# Altium footprint library FootPrnt_fact.PcbLib: 87 footprints (part 5 of 6)
Each footprint in its own frame and in the unit in brackets; x right, y up, seen from the top. Pads: shape width x height; smd on the part's side, far side on the other; paste and mask are expansions set on the pad; w line width, h text height; cw(c..) or ccw(c..) is an arc to the next point about the centre after c.
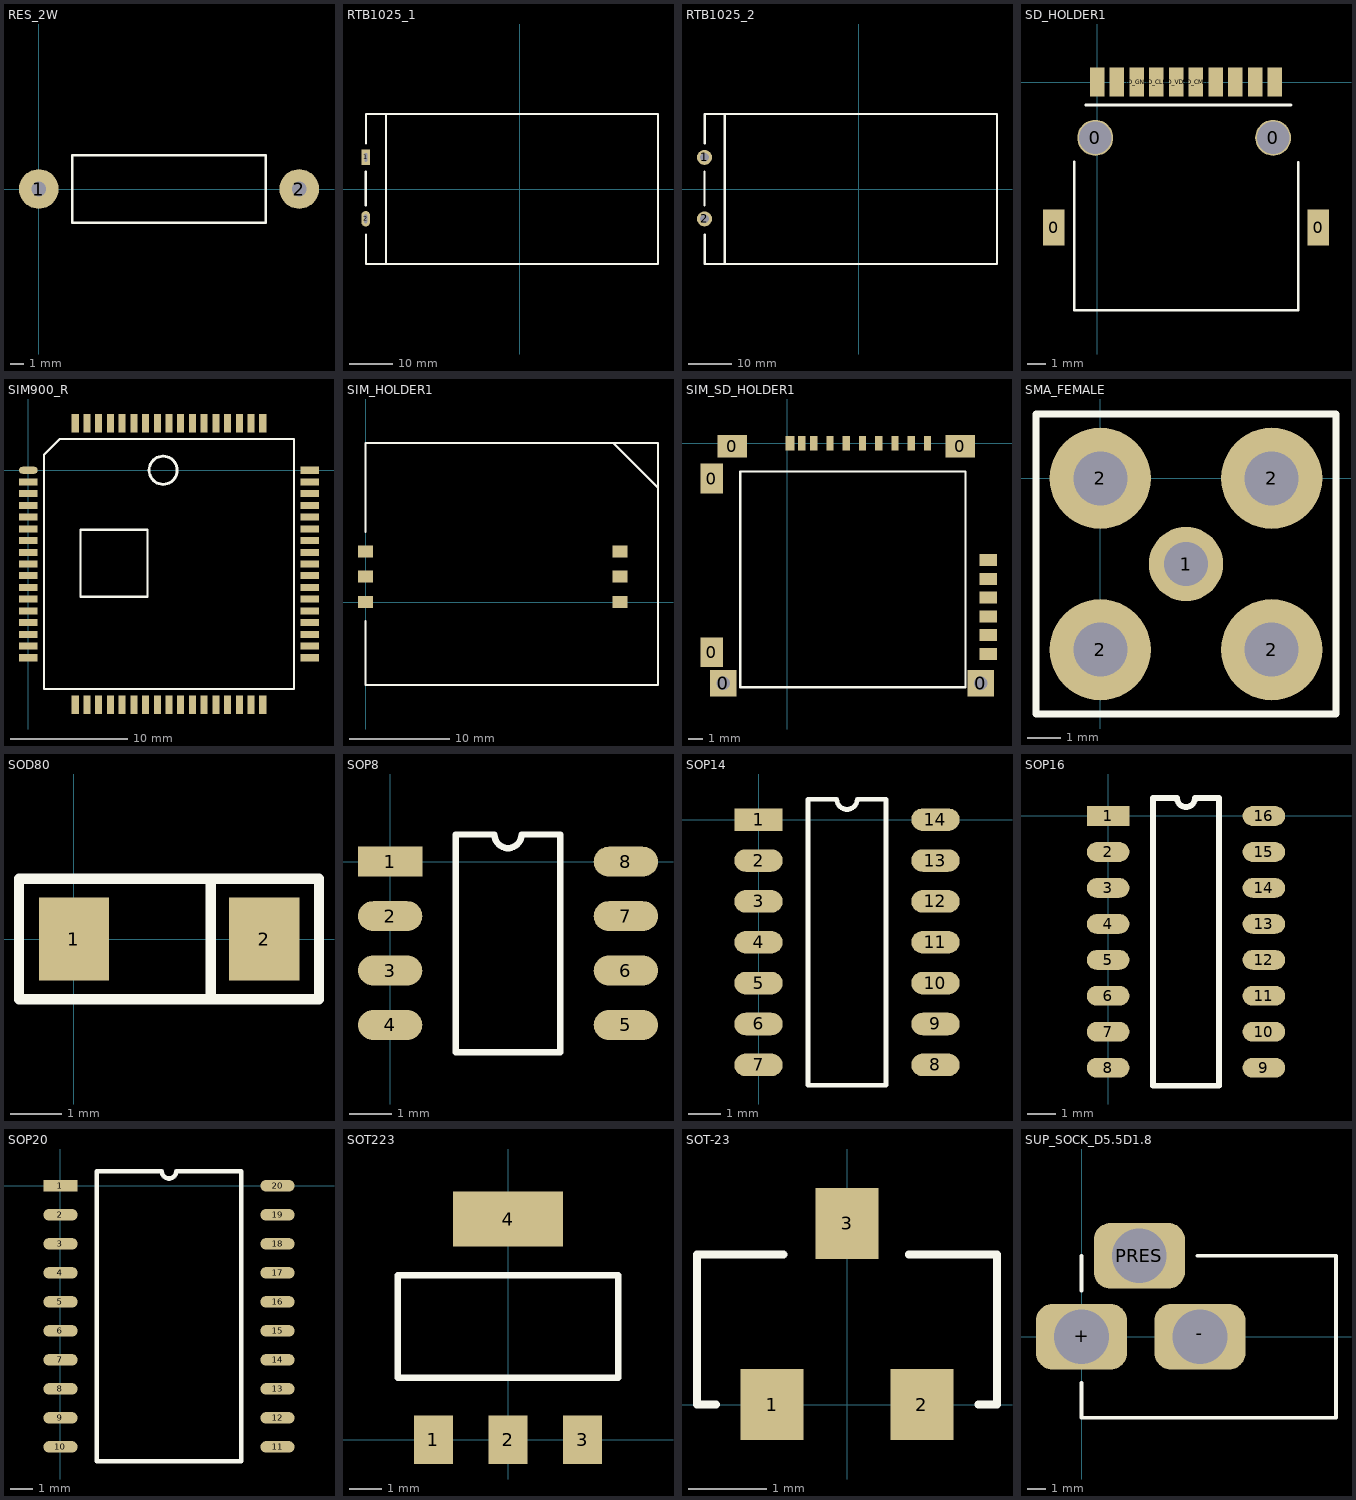
[diagram p4: the footprints below, top view; thin cyan lines are the x and y axes]

## RES_2W [mm]
pads (2):
  round 3 hole 1.1: 1(0,0) 2(19.685,0)
Top Overlay:
  lines w0.2: 2.54,-2.54 17.145,-2.54 17.145,2.54 2.54,2.54 2.54,-2.54

## RTB1025_1 [mm]
pads (2):
  rect 2x3.6 hole 0.6 slot 2 at 90 deg: 1(-35.765,7.4)
  oval 2x3.6 hole 0.6 slot 2 at 90 deg: 2(-35.8,-6.9)
Top Overlay:
  lines w0.5: -35.8,-3.8 -35.8,4.1 ; -35.765,-10.535 -35.765,-17.435 -31.1,-17.435 -31.1,17.5 -35.765,17.5 -35.765,10.635 ; -31.765,-17.435 32.2,-17.435 32.2,17.5 -31.765,17.5

## RTB1025_2 [mm]
pads (2):
  round 3.5 hole 2: 1(-35.8,7.4) 2(-35.8,-6.9)
Top Overlay:
  lines w0.5: -35.8,-3.8 -35.8,4.1 ; -35.765,-10.535 -35.765,-17.435 -31.1,-17.435 -31.1,17.5 -35.765,17.5 -35.765,10.635 ; -31.765,-17.435 32.2,-17.435 32.2,17.5 -31.765,17.5

## SD_HOLDER1 [mm]
pads (14):
  rect 1.2x2 smd: 0(-2.4,-8.1) 0(12.3,-8.1)
  round 2 hole 1.8: 0(-0.1,-3.1) 0(9.8,-3.1)
  rect 0.8x1.6 smd: SD_CLK(3.3,0) SD_CMD(5.5,0) SD_DAT0(1.1,0) SD_DAT1(0,0) SD_DAT2(7.7,0) SD_DAT3(6.6,0) SD_GND(2.2,0) SD_PRES1(8.8,0) SD_PRES2(9.9,0) SD_VDD(4.4,0)
Top Overlay:
  lines w0.15: -1.27,-4.445 -1.27,-12.7 11.202,-12.7 11.202,-4.469 ; -0.635,-1.27 10.795,-1.27

## SIM900_R [mm] "SIM900 or SIM900R"
pads (68):
  oval 1.6x0.6 smd: 1(0,0)
  rect 1.6x0.6 smd: 2(0,-1) 3(0,-2) 4(0,-3) 5(0,-4) 6(0,-5) 7(0,-6) 8(0,-7) 9(0,-8) 10(0,-9) 11(0,-10) 12(0,-11) 13(0,-12) 14(0,-13) 15(0,-14) 16(0,-15) 17(0,-16) 35(24,-16) 36(24,-15) 37(24,-14) 38(24,-13) 39(24,-12) 40(24,-11) 41(24,-10) 42(24,-9) 43(24,-8) 44(24,-7) 45(24,-6) 46(24,-5) 47(24,-4) 48(24,-3) 49(24,-2) 50(24,-1) 51(24,0)
  rect 0.6x1.6 smd: 18(4,-20) 19(5,-20) 20(6,-20) 21(7,-20) 22(8,-20) 23(9,-20) 24(10,-20) 25(11,-20) 26(12,-20) 27(13,-20) 28(14,-20) 29(15,-20) 30(16,-20) 31(17,-20) 32(18,-20) 33(19,-20) 34(20,-20) 52(20,4) 53(19,4) 54(18,4) 55(17,4) 56(16,4) 57(15,4) 58(14,4) 59(13,4) 60(12,4) 61(11,4) 62(10,4) 63(9,4) 64(8,4) 65(7,4) 66(6,4) 67(5,4) 68(4,4)
Top Overlay:
  circle w0.254: c11.5,0 r1.2
  lines w0.2: 1.335,-18.665 1.335,1.33 2.67,2.665 22.665,2.665 22.665,-18.665 1.335,-18.665 ; 4.445,-10.795 10.16,-10.795 10.16,-5.08 4.445,-5.08 4.445,-10.795

## SIM_HOLDER1 [mm]
pads (6):
  rect 1.5x1.2 smd: SIM_CLK(0,5.08) SIM_DATA(25.4,5.08) SIM_GND(25.4,0) SIM_RES(0,2.54) SIM_VDD(0,0) SIM_VPP(25.4,2.54)
Top Overlay:
  lines w0.2: 0,-1.905 0,-8.255 29.21,-8.255 29.21,15.875 0,15.875 0,6.985 ; 24.765,15.875 29.21,11.43

## SIM_SD_HOLDER1 [mm]
pads (22):
  rect 1.5x2 smd: 0(-5.1,-14.141) 0(-5.1,-2.38)
  rect 1.8x1.8 hole 0.9: 0(-4.315,-16.23) 0(13.1,-16.23)
  rect 2x1.5 smd: 0(-3.7,-0.2) 0(11.7,-0.2)
  rect 0.5x1 smd: SD_CLK(6.2,0) SD_CMD(4,0) SD_DAT0(8.4,0) SD_DAT1(9.5,0) SD_DAT2(1.8,0) SD_DAT3(2.9,0) SD_GND(7.3,0) SD_PRES2(1,0) SD_VDD(5.1,0)
  rect 0.6x1 smd: SD_PRES1(0.2,0)
  rect 1.2x0.8 smd: SIM_CLK(13.6,-9.17) SIM_DATA(13.6,-7.9) SIM_GND(13.6,-12.98) SIM_RES(13.6,-11.71) SIM_VDD(13.6,-14.25) SIM_VPP(13.6,-10.44)
Top Overlay:
  lines w0.15: -3.175,-16.51 -3.175,-1.905 12.065,-1.905 12.065,-16.51 -3.175,-16.51

## SMA_FEMALE [mm]
pads (5):
  round 2.2 hole 1.3: 1(2.54,-2.54)
  round 3 hole 1.6: 2(0,-5.08) 2(0,0) 2(5.08,-5.08) 2(5.08,0)
Top Overlay:
  lines w0.2: -1.905,-6.985 0.635,-6.985 5.715,-6.985 6.985,-6.985 6.985,-4.445 6.985,0.635 6.985,1.905 5.715,1.905 1.27,1.905 -1.905,1.905 -1.905,1.27 -1.905,-3.81 -1.905,-6.985

## SOD80 [mm]
pads (2):
  rect 1.37x1.62 smd: 1(0,0) 2(3.71,0)
Top Overlay:
  lines w0.2: 2.668,-1.176 2.668,1.177 ; -1.07,-1.176 -1.07,1.177 4.78,1.177 4.78,-1.176 -1.07,-1.176

## SOP8 [mm]
pads (8):
  rect 1.5x0.7 smd: 1(0,0)
  oval 1.5x0.7 smd: 2(0,-1.27) 3(0,-2.54) 4(0,-3.81) 5(5.5,-3.81) 6(5.5,-2.54) 7(5.5,-1.27) 8(5.5,0)
Top Overlay:
  lines w0.15: 1.535,-4.445 3.965,-4.445 3.965,0.635 3.067,0.635 cw(c2.75,0.635) 2.432,0.635 1.535,0.635 1.535,-4.445

## SOP14 [mm]
pads (14):
  rect 1.5x0.7 smd: 1(0,0)
  oval 1.5x0.7 smd: 2(0,-1.27) 3(0,-2.54) 4(0,-3.81) 5(0,-5.08) 6(0,-6.35) 7(0,-7.62) 8(5.5,-7.62) 9(5.5,-6.35) 10(5.5,-5.08) 11(5.5,-3.81) 12(5.5,-2.54) 13(5.5,-1.27) 14(5.5,0)
Top Overlay:
  lines w0.15: 1.535,-8.255 3.965,-8.255 3.965,0.635 3.067,0.635 cw(c2.75,0.635) 2.432,0.635 1.535,0.635 1.535,-8.255

## SOP16 [mm]
pads (16):
  rect 1.5x0.7 smd: 1(0,0)
  oval 1.5x0.7 smd: 2(0,-1.27) 3(0,-2.54) 4(0,-3.81) 5(0,-5.08) 6(0,-6.35) 7(0,-7.62) 8(0,-8.89) 9(5.5,-8.89) 10(5.5,-7.62) 11(5.5,-6.35) 12(5.5,-5.08) 13(5.5,-3.81) 14(5.5,-2.54) 15(5.5,-1.27) 16(5.5,0)
Top Overlay:
  lines w0.2: 1.585,-9.525 1.585,0.635 2.432,0.635 ccw(c2.75,0.635) 3.067,0.635 3.915,0.635 3.915,-9.525 1.585,-9.525

## SOP20 [mm]
pads (20):
  rect 1.5x0.5 smd: 1(0,0)
  oval 1.5x0.5 smd: 2(0,-1.27) 3(0,-2.54) 4(0,-3.81) 5(0,-5.08) 6(0,-6.35) 7(0,-7.62) 8(0,-8.89) 9(0,-10.16) 10(0,-11.43) 11(9.5,-11.43) 12(9.5,-10.16) 13(9.5,-8.89) 14(9.5,-7.62) 15(9.5,-6.35) 16(9.5,-5.08) 17(9.5,-3.81) 18(9.5,-2.54) 19(9.5,-1.27) 20(9.5,0)
Top Overlay:
  lines w0.2: 1.585,-12.065 1.585,0.635 4.432,0.635 ccw(c4.75,0.635) 5.067,0.635 7.915,0.635 7.915,-12.065 1.585,-12.065

## SOT223 [mm]
pads (4):
  rect 1.2x1.5 smd: 1(-2.3,0) 2(0,0) 3(2.3,0)
  rect 3.4x1.7 smd: 4(0,6.8)
Top Overlay:
  lines w0.2: 3.394,5.077 -3.4,5.077 -3.4,1.905 3.4,1.905 3.4,5.07

## SOT-23 [mm]
pads (3):
  rect 0.8x0.9 smd: 1(-0.95,0) 2(0.95,0) 3(0,2.3)
Top Overlay:
  lines w0.1: -1.664,0 -1.905,0 -1.905,1.905 -0.808,1.905 ; 0.784,1.905 1.905,1.905 1.905,0 1.667,0

## SUP_SOCK_D5.5D1.8 [mm] "Socket for supply"
pads (3):
  rrect50% 5x3.6 hole 3: +(0,0) -(6.5,0) PRES(3.175,4.445)
Top Overlay:
  lines w0.2: 0,-2.54 0,-4.445 6.35,-4.445 13.97,-4.445 13.97,4.445 6.35,4.445 ; 0,2.54 0,4.445